# Altium schematic symbol library EPCOS.SchLib: 1 symbol
Pins are listed as number, name and electrical type; pins without a type are passive.

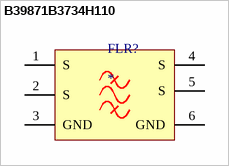
[diagram p0: symbol B39871B3734H110]

## B39871B3734H110
designator FLR?
EPCOS  B39871B3734H110  FILTER, SAW, 868.3MHZ; Catalog number: 2360863; Value: B39871B3734H110
footprint B39871B3734H110
pins: 1 S, 2 S, 3 GND, 4 S, 5 S, 6 GND